# Altium schematic symbol library 地学电子仪器设计与实践原理图库.SCHLIB: 14 symbols
Pins are listed as number, name and electrical type; pins without a type are passive.

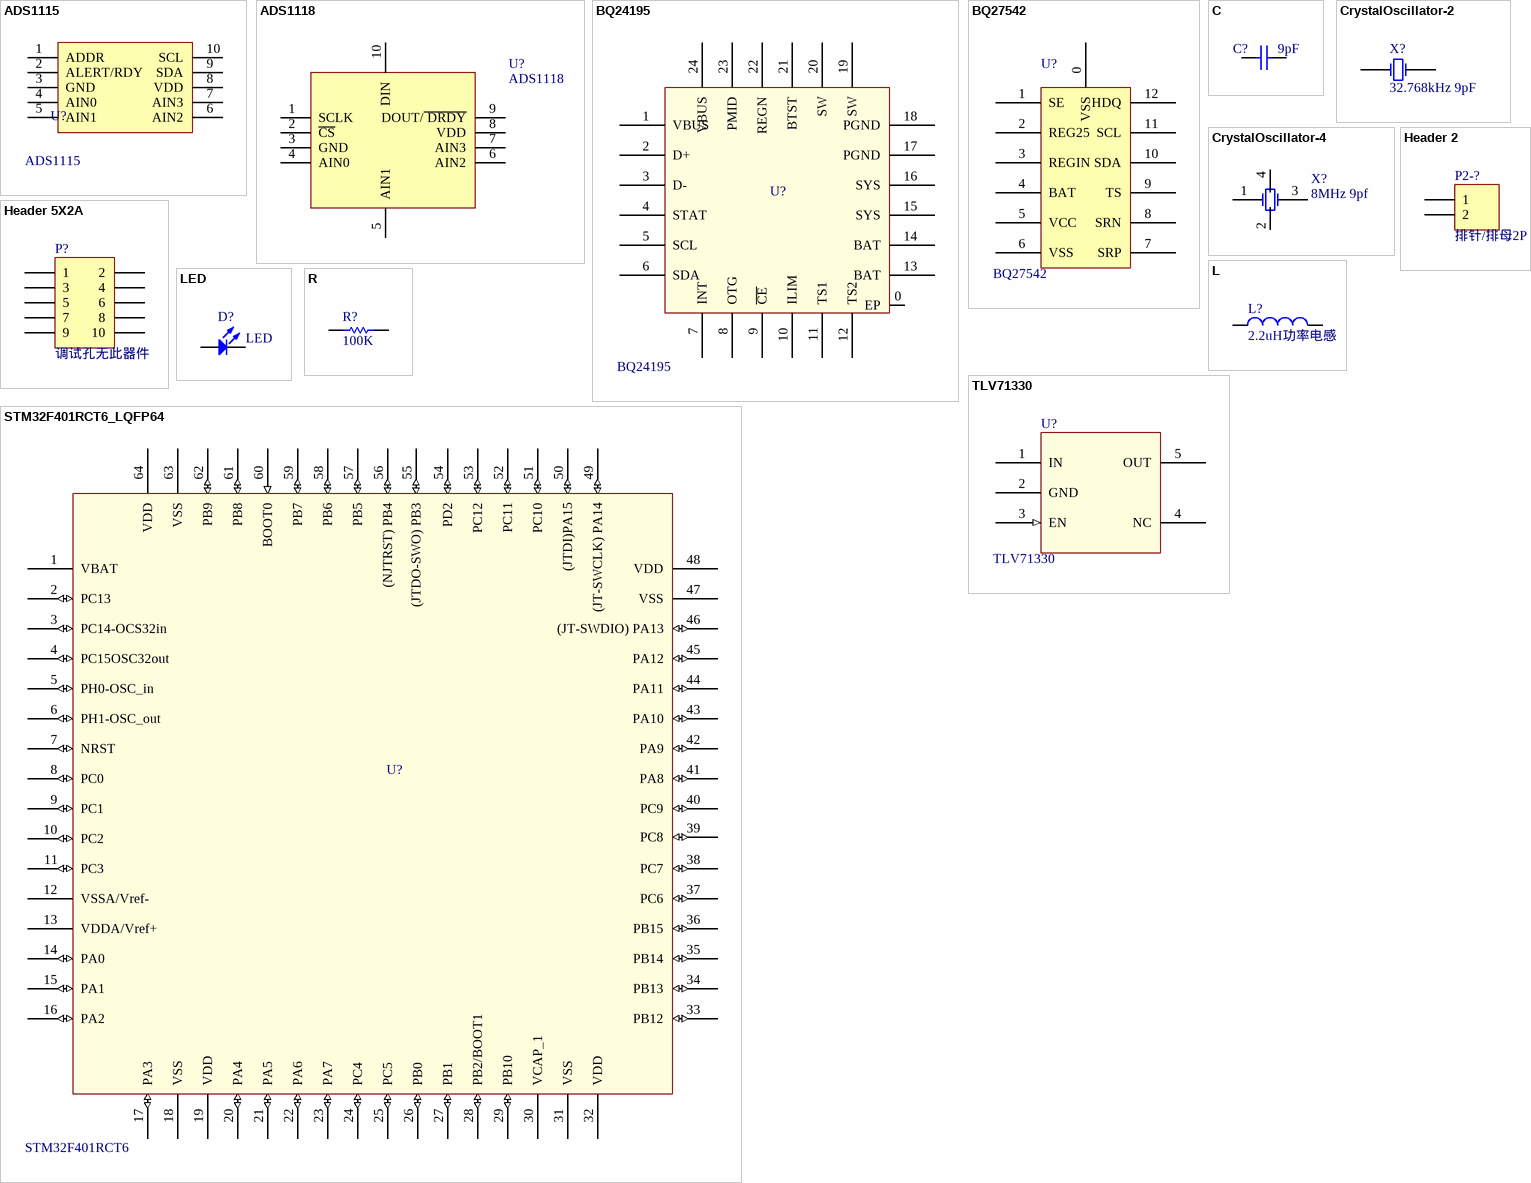
[diagram p0: symbols ADS1115 to TLV71330]

## ADS1115
designator U?
ADS111x Ultra-Small, Low-Power, I / 2C-Compatible, 860-SPS, 16-Bit ADCs / With Internal Reference, Oscillator, and Programmable Comparator; Manufacturer: TI; ProductIndex: 0; ProductType: Integrated Circuits; Case/Package: SOP10; ComponentLink1Description: Datasheet; ComponentLink1URL: https://www.ti.com/lit/ds/symlink/ads1115.pdf; Value: ADS1115
footprint VVSOP-10
footprint VSSOP-10_L3.0-W3.0-P0.50-LS4.9-BL
pins: 1 ADDR, 2 ALERT/RDY, 3 GND, 4 AIN0, 5 AIN1, 6 AIN2, 7 AIN3, 8 VDD, 9 SDA, 10 SCL

## ADS1118
designator U?
footprint VSSOP-10_L3.0-W3.0-P0.50-LS4.9-BL
pins: 1 SCLK, 2 ~{CS}, 3 GND, 4 AIN0, 5 AIN1, 6 AIN2, 7 AIN3, 8 VDD, 9 DOUT/~{ DRDY}, 10 DIN

## BQ24195
designator U?
bq2419x I / 2C Controlled 4.5-A Single Cell USB/Adapter Charger / with Narrow VDC Power Path Management and USB OTG; Manufacturer: TI; ProductIndex: 0; ProductType: Integrated Circuits; Case/Package: QFN24; ComponentLink1Description: Datasheet; ComponentLink1URL: https://www.ti.com/lit/ds/symlink/bq24195.pdf; Value: BQ24195
footprint BQ24195 PVQFN42 (TI Charger 4A 4*4mm)
pins: 0 EP, 1 VBUS (power), 2 D+, 3 D-, 4 STAT, 5 SCL, 6 SDA, 7 INT, 8 OTG, 9 ~{CE}, 10 ILIM, 11 TS1, 12 TS2, 13 BAT (power), 14 BAT (power), 15 SYS (power), 16 SYS (power), 17 PGND, 18 PGND, 19 SW, 20 SW, 21 BTST (power), 22 REGN (power), 23 PMID (power), 24 VBUS (power)

## BQ27542
designator U?
Single Cell Li-Ion Battery Fuel Gauge for Battery Pack Integration; Manufacturer: TI; ProductIndex: 0; ProductType: Integrated Circuits; Case/Package: 非常见封装 FON?; ComponentLink1Description: Datasheet; ComponentLink1URL: https://www.ti.com/lit/ds/symlink/bq27541-v200.pdf; Value: BQ27542
footprint BQ27542-G1 (TI电量计)
pins: 0 VSS, 1 SE, 2 REG25, 3 REGIN, 4 BAT, 5 VCC, 6 VSS, 7 SRP, 8 SRN, 9 TS, 10 SDA, 11 SCL, 12 HDQ

## C
designator C?, comment 9pF
电容无极性; 创建: 高鹏20160422; 修改: 高鹏20160423 增加0402(0201)/0603(0402)/0805(0603)封装; Value: 9pF
footprint 0402(0201) (0402 ,1mm*0.5mm,两侧焊盘余量0.5mm(兼容0201))
footprint 0603(0402) (0603 ,1.6mm*0.8mm,两侧焊盘余量0.5mm(兼容0402))
footprint 0805(0603) (0805 ,2.0mm*1.2mm,两侧焊盘余量0.5mm(兼容0603))
footprint 0402C (0402 ,1mm*0.5mm,两侧焊盘余量0.5mm(兼容0201))
footprint 0402C (0402 ,1mm*0.5mm,两侧焊盘余量0.5mm(兼容0201))
pins: 1, 2

## CrystalOscillator-2
designator X?, comment Seiko SC-32S32.768kHz20PPM9pF  (value not drawn)
晶振-2脚; 创建: 高鹏20160422
footprint Crystal Seiko 32.768kHz (晶体 Seiko 32.768kHz 3.2*1.5mm 立创商城 7pF)
pins: 1 OSC1, 2 OSC2
text: 32.768kHz 9pF

## CrystalOscillator-4
designator X?, comment #name: 8MHz 9pf  (hidden comment: 8MHz 8pf 3225)
晶振-4脚; 1创建: 高鹏20171028; 2修改: *
footprint Crystal YXC 32MHz - 3225 (晶体 32MHZ 3.2*2.5mm 立创商城 10pF YSX321SL)
pins: 1 OSC1, 2 GND, 3 OSC2, 4 OSC2

## Header 2
designator P2-?, comment 排针/排母2P
Header, 2-Pin; LatestRevisionDate: 17-Jul-2002; LatestRevisionNote: Re-released for DXP Platform.; Publisher: Altium Limited
footprint HDR1X2 (Connector; Header; 2 Position)
pins: 1, 2

## Header 5X2A
designator P?, comment 调试孔无此器件
Header, 5-Pin, Dual row; LatestRevisionDate: 17-Jul-2002; LatestRevisionNote: Re-released for DXP Platform.; Publisher: Altium Limited
footprint HDR2X5 (Connector; Header; 5x2 Position)
signal-integrity model Connector
pins: 1, 2, 3, 4, 5, 6, 7, 8, 9, 10

## L
designator L?, comment 2.2uH功率电感4NR4018T2R2M  (value not drawn)
电感; 创建: 高鹏20160422
footprint 4018 (功率电感Taiyo Yuden 4018 2.2nH 4*4*1.8mm)
footprint 0805(0603) (0805 ,2.0mm*1.2mm,两侧焊盘余量0.5mm(兼容0603))
pins: 1, 2
text: 2.2uH功率电感

## LED
designator D?
Typical RED, GREEN, YELLOW, AMBER GaAs LED; Published: 8-Jun-2000; LatestRevisionDate: 17-Jul-2002; LatestRevisionNote: Re-released for DXP Platform.; PackageDocument: Feb-2002; PackageReference: 3.2X1.6X1.1; Publisher: Altium Limited; UnitPrice: 0.05
footprint LED0805
footprint LED0603
footprint DLED-4MM
pins: 1 A, 2 K

## R
designator R?, comment 100K
电阻; 创建: 高鹏20160422; Value: 100K
footprint 0402(0201) (0402 ,1mm*0.5mm,两侧焊盘余量0.5mm(兼容0201))
footprint 0603(0402) (0603 ,1.6mm*0.8mm,两侧焊盘余量0.5mm(兼容0402))
footprint 0805(0603) (0805 ,2.0mm*1.2mm,两侧焊盘余量0.5mm(兼容0603))
footprint 0402R (0402 ,1mm*0.5mm,两侧焊盘余量0.5mm(兼容0201))
footprint 0
pins: 1, 2

## STM32F401RCT6_LQFP64
designator U?, comment STM32F401RCT6
Manufacturer: ST; ProductIndex: 0; ProductType: Integrated Circuits; Case/Package: LQFP64; Value: STM32F401RCT6
footprint STM32F401RCT6 LQFP64 (STM32F401RCT6 LQFP64 10*10mm)
pins: 1 VBAT (power), 2 PC13 (io), 3 PC14-OCS32in (io), 4 PC15OSC32out (io), 5 PH0-OSC_in (io), 6 PH1-OSC_out (io), 7 NRST (io), 8 PC0 (io), 9 PC1 (io), 10 PC2 (io), 11 PC3 (io), 12 VSSA/Vref- (power), 13 VDDA/Vref+ (power), 14 PA0 (io), 15 PA1 (io), 16 PA2 (io), 17 PA3 (io), 18 VSS, 19 VDD (power), 20 PA4 (io), 21 PA5 (io), 22 PA6 (io), 23 PA7 (io), 24 PC4 (io), 25 PC5 (io), 26 PB0 (io), 27 PB1 (io), 28 PB2/BOOT1 (io), 29 PB10 (io), 30 VCAP_1 (power), 31 VSS, 32 VDD (power), 33 PB12 (io), 34 PB13 (io), 35 PB14 (io), 36 PB15 (io), 37 PC6 (io), 38 PC7 (io), 39 PC8 (io), 40 PC9 (io), 41 PA8 (io), 42 PA9 (io), 43 PA10 (io), 44 PA11 (io), 45 PA12 (io), 46 (JT-SWDIO) PA13 (io), 47 VSS, 48 VDD (power), 49 (JT-SWCLK) PA14 (io), 50 (JTDI)PA15 (io), 51 PC10 (io), 52 PC11 (io), 53 PC12 (io), 54 PD2 (io), 55 (JTDO-SWO) PB3 (io), 56 (NJTRST) PB4 (io), 57 PB5 (io), 58 PB6 (io), 59 PB7 (io), 60 BOOT0 (in), 61 PB8 (io), 62 PB9 (io), 63 VSS, 64 VDD (power)

## TLV71330
designator U?
TLV713 Capacitor-Free, 150-mA, Low-Dropout Regulator / With Foldback Current Limit for Portable Devices; Manufacturer: Analog Devices; ProductIndex: 0; ProductType: Integrated Circuits; Case/Package: SOT-23; Value: TLV71330
footprint SOT-23-5
pins: 1 IN (power), 2 GND, 3 EN (in), 4 NC ">0.9v ON <0.35V SHUTDOWN", 5 OUT (power)